# EAGLE library part TEST (library RaspberryPi_Compute)
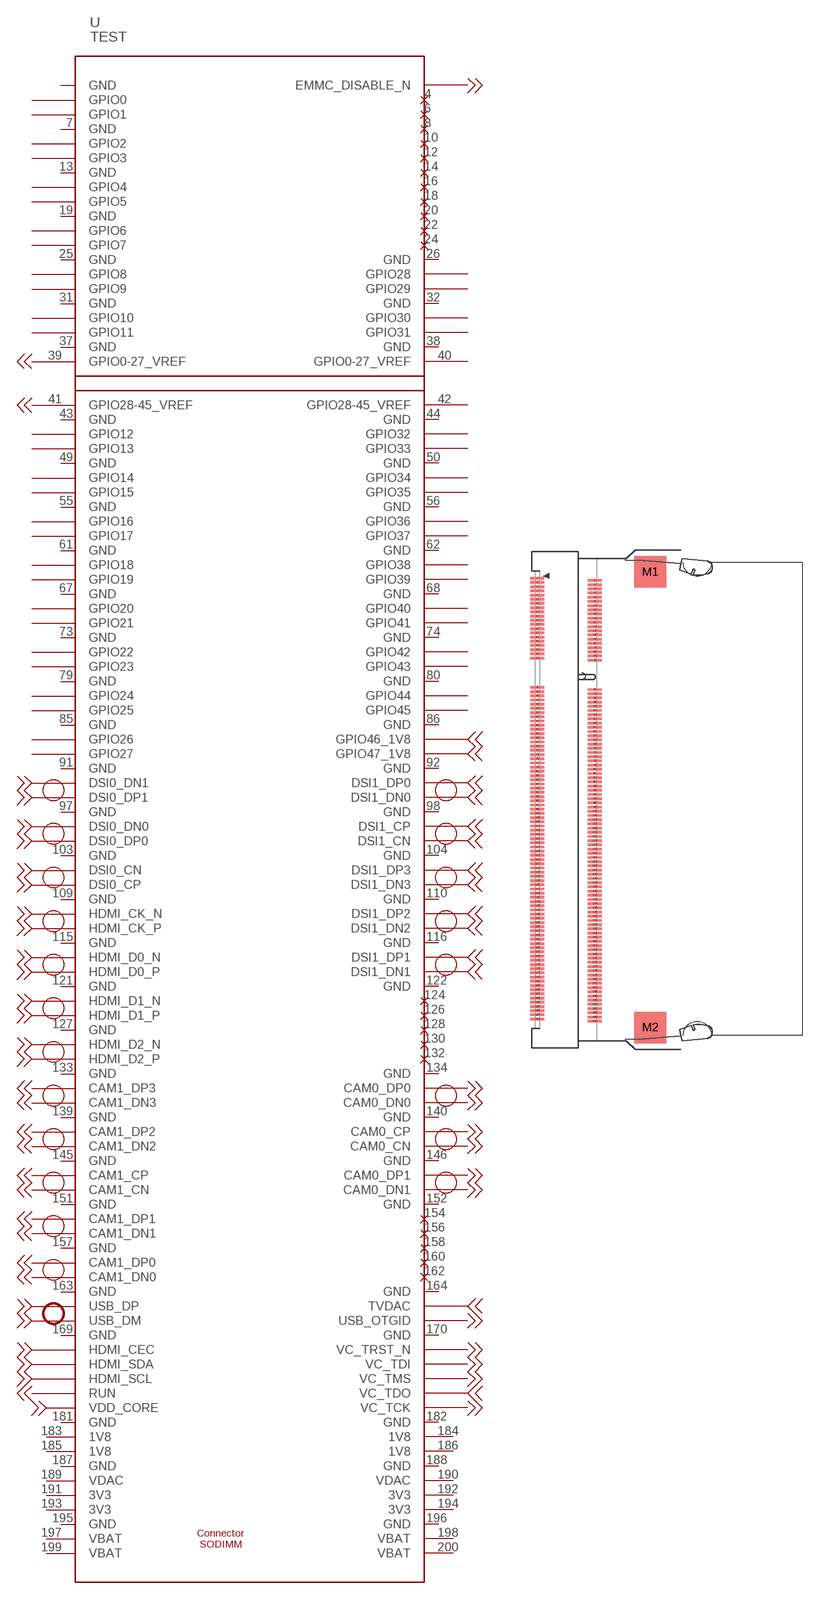
[diagram p2: symbol with the pads of SODIMM_CONNECTOR_AND_BOARD; footprint SODIMM_CONNECTOR_AND_BOARD]

Designator prefix -

## TEST  [SODIMM_CONNECTOR_AND_BOARD]
1  GND
4  NC
6  NC
7  GND
8  NC
10  NC
12  NC
13  GND
14  NC
16  NC
18  NC
19  GND
20  NC
22  NC
24  NC
25  GND
26  GND
31  GND
32  GND
37  GND
38  GND
39  GPIO0-27_VREF
40  GPIO0-27_VREF
41  GPIO28-45_VREF
42  GPIO28-45_VREF
43  GND
44  GND
49  GND
50  GND
55  GND
56  GND
61  GND
62  GND
67  GND
68  GND
73  GND
74  GND
79  GND
80  GND
85  GND
86  GND
91  GND
92  GND
97  GND
98  GND
103  GND
104  GND
109  GND
110  GND
115  GND
116  GND
121  GND
122  GND
124  NC
126  NC
127  GND
128  NC
130  NC
132  NC
133  GND
134  GND
139  GND
140  GND
145  GND
146  GND
151  GND
152  GND
154  NC
156  NC
157  GND
158  NC
160  NC
162  NC
163  GND
164  GND
169  GND
170  GND
181  GND
182  GND
183  1V8
184  1V8
185  1V8
186  1V8
187  GND
188  GND
189  VDAC
190  VDAC
191  3V3
192  3V3
193  3V3
194  3V3
195  GND
196  GND
197  VBAT
198  VBAT
199  VBAT
200  VBAT

## Footprint SODIMM_CONNECTOR_AND_BOARD (pad centres in mm)
smd 2 x 0.35: 1 -19.34,30.11; 2 -11.14,29.81; 3 -19.34,29.51; 4 -11.14,29.21; 5 -19.34,28.91; 6 -11.14,28.61; 7 -19.34,28.31; 8 -11.14,28.01; 9 -19.34,27.71; 10 -11.14,27.41; 11 -19.34,27.11; 12 -11.14,26.81; 13 -19.34,26.51; 14 -11.14,26.21; 15 -19.34,25.91; 16 -11.14,25.61; 17 -19.34,25.31; 18 -11.14,25.01; 19 -19.34,24.71; 20 -11.14,24.41; 21 -19.34,24.11; 22 -11.14,23.81; 23 -19.34,23.51; 24 -11.14,23.21; 25 -19.34,22.91; 26 -11.14,22.61; 27 -19.34,22.31; 28 -11.14,22.01; 29 -19.34,21.71; 30 -11.14,21.41; 31 -19.34,21.11; 32 -11.14,20.81; 33 -19.34,20.51; 34 -11.14,20.21; 35 -19.34,19.91; 36 -11.14,19.61; 37 -19.34,19.31; 38 -11.14,19.01; 39 -19.34,18.71; 40 -11.14,18.41; 41 -19.34,14.51; 42 -11.14,14.21; 43 -19.34,13.91; 44 -11.14,13.61; 45 -19.34,13.31; 46 -11.14,13.01; 47 -19.34,12.71; 48 -11.14,12.41; 49 -19.34,12.11; 50 -11.14,11.81; 51 -19.34,11.51; 52 -11.14,11.21; 53 -19.34,10.91; 54 -11.14,10.61; 55 -19.34,10.31; 56 -11.14,10.01; 57 -19.34,9.71; 58 -11.14,9.41; 59 -19.34,9.11; 60 -11.14,8.81; 61 -19.34,8.51; 62 -11.14,8.21; 63 -19.34,7.91; 64 -11.14,7.61; 65 -19.34,7.31; 66 -11.14,7.01; 67 -19.34,6.71; 68 -11.14,6.41; 69 -19.34,6.11; 70 -11.14,5.81; 71 -19.34,5.51; 72 -11.14,5.21; 73 -19.34,4.91; 74 -11.14,4.61; 75 -19.34,4.31; 76 -11.14,4.01; 77 -19.34,3.71; 78 -11.14,3.41; 79 -19.34,3.11; 80 -11.14,2.81; 81 -19.34,2.51; 82 -11.14,2.21; 83 -19.34,1.91; 84 -11.14,1.61; 85 -19.34,1.31; 86 -11.14,1.01; 87 -19.34,0.71; 88 -11.14,0.41; 89 -19.34,0.11; 90 -11.14,-0.19; 91 -19.34,-0.49; 92 -11.14,-0.79; 93 -19.34,-1.09; 94 -11.14,-1.39; 95 -19.34,-1.69; 96 -11.14,-1.99; 97 -19.34,-2.29; 98 -11.14,-2.59; 99 -19.34,-2.89; 100 -11.14,-3.19; 101 -19.34,-3.49; 102 -11.14,-3.79; 103 -19.34,-4.09; 104 -11.14,-4.39; 105 -19.34,-4.69; 106 -11.14,-4.99; 107 -19.34,-5.29; 108 -11.14,-5.59; 109 -19.34,-5.89; 110 -11.14,-6.19; 111 -19.34,-6.49; 112 -11.14,-6.79; 113 -19.34,-7.09; 114 -11.14,-7.39; 115 -19.34,-7.69; 116 -11.14,-7.99; 117 -19.34,-8.29; 118 -11.14,-8.59; 119 -19.34,-8.89; 120 -11.14,-9.19; 121 -19.34,-9.49; 122 -11.14,-9.79; 123 -19.34,-10.09; 124 -11.14,-10.39; 125 -19.34,-10.69; 126 -11.14,-10.99; 127 -19.34,-11.29; 128 -11.14,-11.59; 129 -19.34,-11.89; 130 -11.14,-12.19; 131 -19.34,-12.49; 132 -11.14,-12.79; 133 -19.34,-13.09; 134 -11.14,-13.39; 135 -19.34,-13.69; 136 -11.14,-13.99; 137 -19.34,-14.29; 138 -11.14,-14.59; 139 -19.34,-14.89; 140 -11.14,-15.19; 141 -19.34,-15.49; 142 -11.14,-15.79; 143 -19.34,-16.09; 144 -11.14,-16.39; 145 -19.34,-16.69; 146 -11.14,-16.99; 147 -19.34,-17.29; 148 -11.14,-17.59; 149 -19.34,-17.89; 150 -11.14,-18.19; 151 -19.34,-18.49; 152 -11.14,-18.79; 153 -19.34,-19.09; 154 -11.14,-19.39; 155 -19.34,-19.69; 156 -11.14,-19.99; 157 -19.34,-20.29; 158 -11.14,-20.59; 159 -19.34,-20.89; 160 -11.14,-21.19; 161 -19.34,-21.49; 162 -11.14,-21.79; 163 -19.34,-22.09; 164 -11.14,-22.39; 165 -19.34,-22.69; 166 -11.14,-22.99; 167 -19.34,-23.29; 168 -11.14,-23.59; 169 -19.34,-23.89; 170 -11.14,-24.19; 171 -19.34,-24.49; 172 -11.14,-24.79; 173 -19.34,-25.09; 174 -11.14,-25.39; 175 -19.34,-25.69; 176 -11.14,-25.99; 177 -19.34,-26.29; 178 -11.14,-26.59; 179 -19.34,-26.89; 180 -11.14,-27.19; 181 -19.34,-27.49; 182 -11.14,-27.79; 183 -19.34,-28.09; 184 -11.14,-28.39; 185 -19.34,-28.69; 186 -11.14,-28.99; 187 -19.34,-29.29; 188 -11.14,-29.59; 189 -19.34,-29.89; 190 -11.14,-30.19; 191 -19.34,-30.49; 192 -11.14,-30.79; 193 -19.34,-31.09; 194 -11.14,-31.39; 195 -19.34,-31.69; 196 -11.14,-31.99; 197 -19.34,-32.29; 198 -11.14,-32.59; 199 -19.34,-32.89; 200 -11.14,-33.19
smd 4.6 x 4.5: M1 -3.24,31.01; M2 -3.24,-34.09